# Altium footprint library STM32主处理板.PcbLib: 29 footprints (part 2 of 2)
Each footprint in its own frame and in the unit in brackets; x right, y up, seen from the top. Pads: shape width x height; smd on the part's side, far side on the other; paste and mask are expansions set on the pad; w line width, h text height; cw(c..) or ccw(c..) is an arc to the next point about the centre after c.
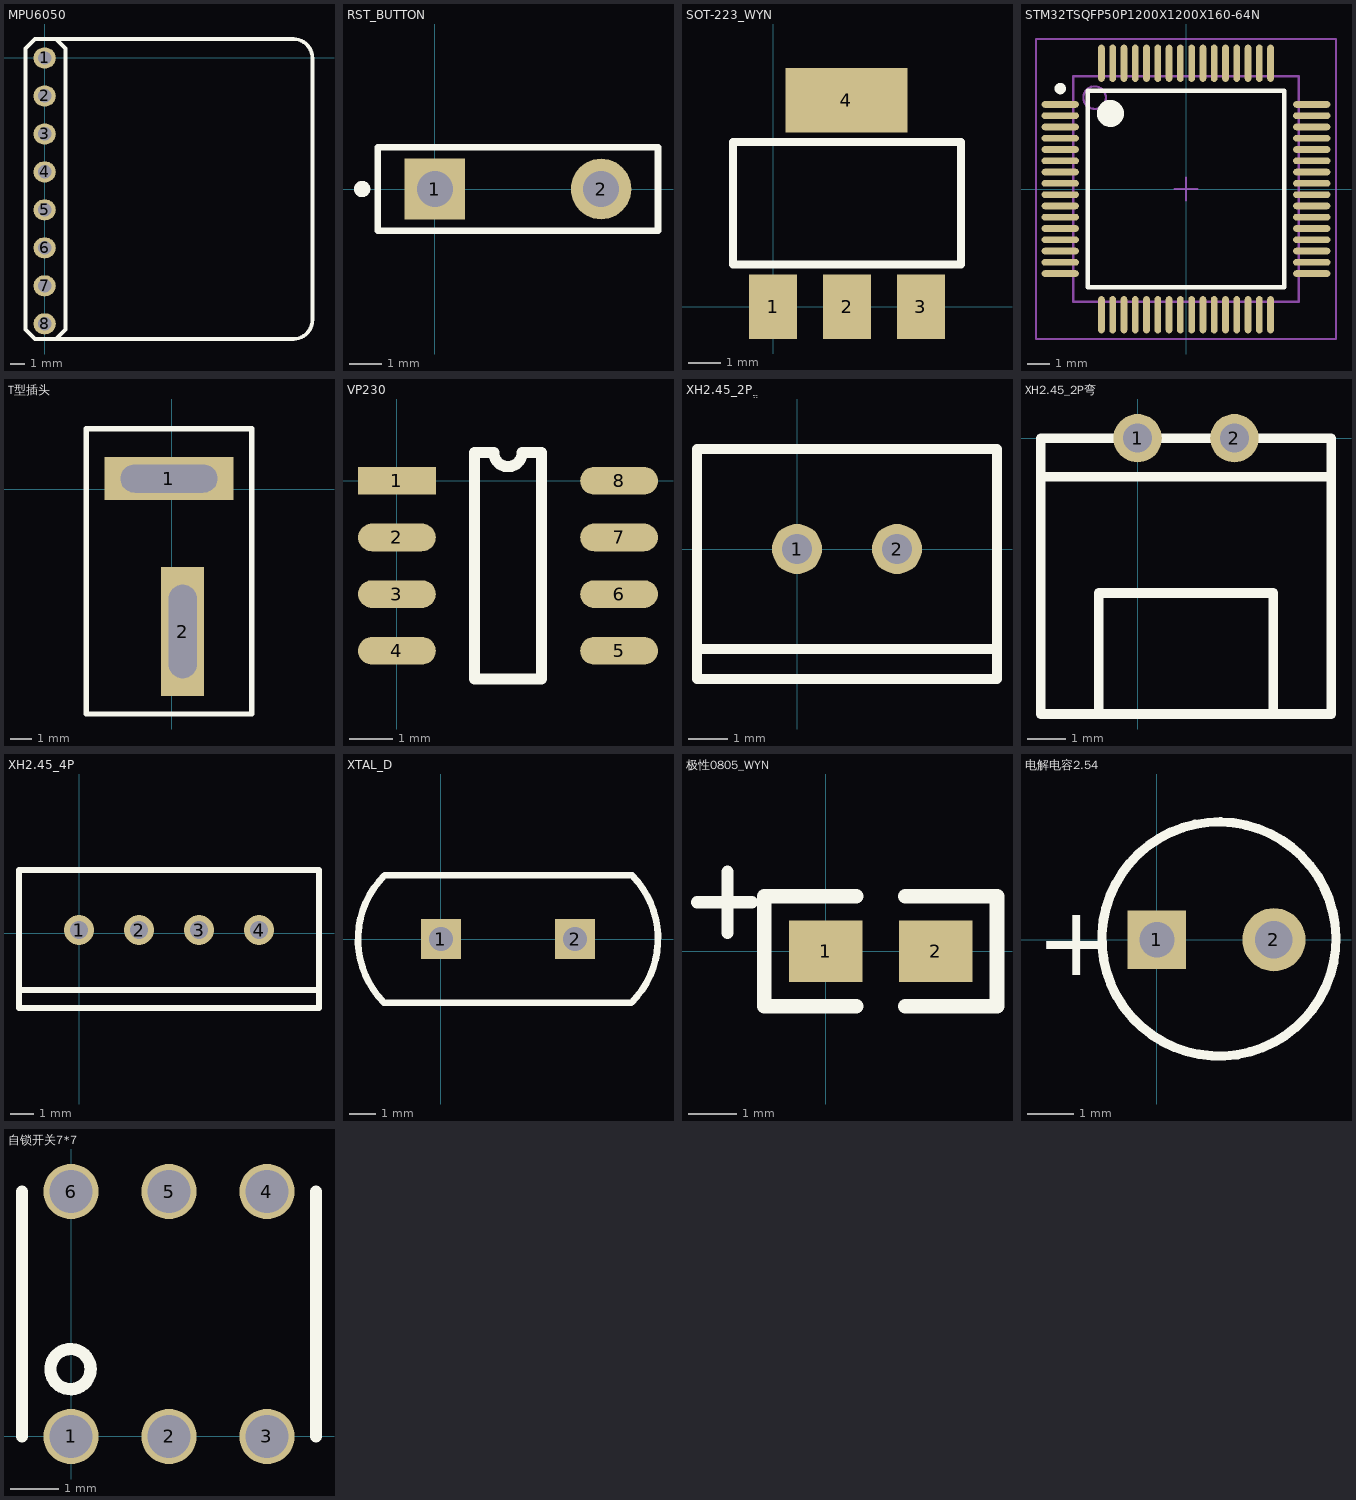
[diagram p1: the footprints below, top view; thin cyan lines are the x and y axes]

## MPU6050 [mil]
pads (8):
  oval 59x55 hole 35.4: 1(0,0) 2(0,-100) 3(0,-200) 4(0,-300) 5(0,-400) 6(0,-500) 7(0,-600) 8(0,-700)
Top Overlay:
  lines w10: 0,-740 655,-740 ccw(c655,-690) 705,-690 705,0 ccw(c655,0) 655,50 30,50 ; 30,50 55,25 55,-715 30,-740 -25,-740 -50,-715 -50,25 -25,50 0,50 30,50

## RST_BUTTON [mm]
pads (2):
  rect 1.85x1.85 hole 1.1: 1(0,0)
  round 1.85 hole 1.1: 2(5.08,0)
Top Overlay:
  circle w0.25: c-2.221,-0.001 r0.125
  lines w0.2: -1.74,-1.27 -1.74,1.27 6.82,1.27 6.82,-1.27 -1.74,-1.27

## SOT-223_WYN [mil]
pads (4):
  rect 59x79 smd: 1(0,0) 2(90.55,0) 3(181.1,0)
  rect 150x79 smd: 4(89.88,253.54)
Top Overlay:
  lines w10: -49.45,52 -49.45,202 230.55,202 230.55,52 -49.45,52

## STM32TSQFP50P1200X1200X160-64N [mm] "TSQFP, 64-Leads, Body 12.0x12.0mm (max), Pitch 0.50mm, IPC Medium Density"
height 1.6
pads (64):
  oval 1.65x0.3 smd: 1(-5.575,3.75) 2(-5.575,3.25) 3(-5.575,2.75) 4(-5.575,2.25) 5(-5.575,1.75) 6(-5.575,1.25) 7(-5.575,0.75) 8(-5.575,0.25) 9(-5.575,-0.25) 10(-5.575,-0.75) 11(-5.575,-1.25) 12(-5.575,-1.75) 13(-5.575,-2.25) 14(-5.575,-2.75) 15(-5.575,-3.25) 16(-5.575,-3.75) 33(5.575,-3.75) 34(5.575,-3.25) 35(5.575,-2.75) 36(5.575,-2.25) 37(5.575,-1.75) 38(5.575,-1.25) 39(5.575,-0.75) 40(5.575,-0.25) 41(5.575,0.25) 42(5.575,0.75) 43(5.575,1.25) 44(5.575,1.75) 45(5.575,2.25) 46(5.575,2.75) 47(5.575,3.25) 48(5.575,3.75)
  oval 0.3x1.65 smd: 17(-3.75,-5.575) 18(-3.25,-5.575) 19(-2.75,-5.575) 20(-2.25,-5.575) 21(-1.75,-5.575) 22(-1.25,-5.575) 23(-0.75,-5.575) 24(-0.25,-5.575) 25(0.25,-5.575) 26(0.75,-5.575) 27(1.25,-5.575) 28(1.75,-5.575) 29(2.25,-5.575) 30(2.75,-5.575) 31(3.25,-5.575) 32(3.75,-5.575) 49(3.75,5.575) 50(3.25,5.575) 51(2.75,5.575) 52(2.25,5.575) 53(1.75,5.575) 54(1.25,5.575) 55(0.75,5.575) 56(0.25,5.575) 57(-0.25,5.575) 58(-0.75,5.575) 59(-1.25,5.575) 60(-1.75,5.575) 61(-2.25,5.575) 62(-2.75,5.575) 63(-3.25,5.575) 64(-3.75,5.575)
Top Overlay:
  circle w0.6: c-3.35,3.35 r0.3
  circle w0.25: c-5.575,4.45 r0.125
  lines w0.2: -4.35,-4.35 4.35,-4.35 4.35,4.35 -4.35,4.35 -4.35,-4.35
Mechanical 13:
  circle w0.1: c-4.05,4.05 r0.5
  lines w0.1: -5,-5 5,-5 5,5 -5,5 -5,-5
Mechanical 15:
  lines w0.1: -0.5,0 0.5,0 ; 0,-0.5 0,0.5 ; -6.65,-6.65 6.65,-6.65 6.65,6.65 -6.65,6.65 -6.65,-6.65
3D body: height 1.6, standoff 0.15, extent -5,-5 5,5

## T型插头 [mm]
height 1.1
pads (2):
  rect 6x2 hole 1.3 slot 4.5 at 0 deg: 1(-0.127,0.508)
  rect 2x6 hole 1.3 slot 4.35 at 90 deg: 2(0.508,-6.604)
Top Overlay:
  lines w0.254: -3.977,-10.435 -3.977,2.815 3.723,2.815 3.723,-10.435 -3.977,-10.435

## VP230 [mil]
pads (8):
  rect 70x25 smd: 1(0,0)
  oval 70x25 smd: 2(0,-51) 3(0,-102) 4(0,-153) 5(200,-153) 6(200,-102) 7(200,-51) 8(200,0)
Top Overlay:
  lines w10: 70,-178.5 70,25.5 87.25,25.5 ccw(c100,25.5) 112.75,25.5 130,25.5 130,-178.5 70,-178.5

## XH2.45_2Pֱ [mil]
pads (2):
  round 50 hole 30: 1(0,0) 2(100,0)
Top Overlay:
  lines w10: -100,-100 200,-100 200,-110 ; -100,-130 200,-130 200,100 -100,100 -100,0 -100,-130

## XH2.45_2P弯 [mil]
pads (2):
  round 50 hole 30: 1(0,0) 2(100,0)
Top Overlay:
  lines w10: -100,-40 200,-40 ; -40,-285 -40,-160 140,-160 140,-280 ; -100,-285 200,-285 200,0 -100,0 -100,-285

## XH2.45_4P [mil]
pads (4):
  round 50 hole 30: 1(0,5) 2(100,5) 3(200,5) 4(300,5)
Top Overlay:
  lines w10: -100,-95 400,-95 ; -100,-125 -100,105 100,105 400,105 400,-125 -100,-125

## XTAL_D [mil]
pads (2):
  rect 60x60 hole 36 paste+0: 1(0,0) 2(200,0)
Top Overlay:
  lines w10: 200,-95 0,-95 ; 0,-95 284,-95 ccw(c189.5,0.5) 285,95 200,95 -84,95 ccw(c10.5,-0.5) -85,-95 0,-95

## 极性0805_WYN [mil]
pads (2):
  rect 60x50 smd: 1(0,0) 2(90,0)
Top Overlay:
  lines w10: -105,40 -60,40 ; -80,15 -80,65
  lines w12: 25,-45 -50,-45 -50,45 25,45 ; 65,-45 140,-45 140,45 65,45

## 电解电容2.54 [mm]
pads (2):
  rect 1.25x1.25 hole 0.75: 1(0,0)
  round 1.35 hole 0.8: 2(2.5,0)
Top Overlay:
  lines w0.2: -0.717,-1.427 cw(c1.326,0.015) -0.694,-1.459
  text "+" at -2.58,-0.762 h1.5

## 自锁开关7*7 [mil]
pads (6):
  round 45 hole 35: 1(0,0) 2(80,0) 3(160,0) 4(160,200) 5(80,200) 6(0,200)
Top Overlay:
  circle w10: c-0.4,55 r16.4
  lines w10: -40,0 -40,200 ; 200,0 200,200